# Altium schematic symbol library SCH - COMPARATOR - TI LM2903DR.SCHLIB: 1 symbol
Pins are listed as number, name and electrical type; pins without a type are passive.

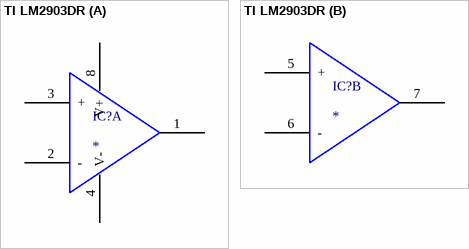
[diagram p0: symbol TI LM2903DR]

## TI LM2903DR
designator IC?
part A pins: 1 OUTA, 2 -, 3 +, 4 V-, 8 V+
part B pins: 5 +, 6 -, 7 OUTB